# Altium schematic symbol library L7987.SchLib: 1 symbol
Pins are listed as number, name and electrical type; pins without a type are passive.

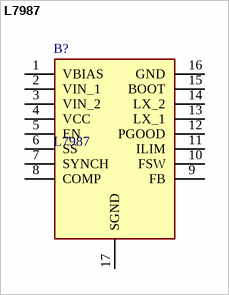
[diagram p0: symbol L7987]

## L7987
designator B?
61 V 3 A asynchronous step-down switching regulator with adjustable current limitation; Manufacturer_Name: STMicroelectronics; Geometry.Height: 1.2mm; TME Electronic Components Part Number: *; TME Electronic Components Price/Stock: *; Manufacturer_Part_Number: L7987; Datasheet Link: https://www.st.com/resource/en/datasheet/l7987.pdf
footprint SOP65P640X120-17N
pins: 1 VBIAS, 2 VIN_1, 3 VIN_2, 4 VCC, 5 EN, 6 SS, 7 SYNCH, 8 COMP, 9 FB, 10 FSW, 11 ILIM, 12 PGOOD, 13 LX_1, 14 LX_2, 15 BOOT, 16 GND, 17 SGND